# EAGLE library part TPS56320X (library bt_regulator)
TPS56320x 3-A Synchronous Step-Down Voltage Regulator The TPS563201 and TPS563208 are simple, easy-to-use, 3A synchronous step-down converters in SOT-23 package. The devices are optimized to operate with minimum external component counts and also optimized to achieve low standby current These switch mode power supply (SMPS) devices employ D-CAP2 mode control providing a fast transient response and supporting both low-equivalent series resistance (ESR) output capacitors such as specialty polymer and ultra-low ESR ceramic capacitors with no external compensation components. TPS563201 operates in pulse skip mode, which maintains high efficiency during light load operation. The TPS563201 and TPS563208 are available in a 6-pin 1.6mm x 2.9mm DDC package and specified from a 40°C to 125°C junction temperature. Datasheet.pdf <http://www.ti.com/lit/ds/symlink/tps563201.pdf> Features Integrated 95-mΩ and 57-mΩ FETs D-CAP2™ Mode Control with fast transient response Input Voltage Range: 4.5 V to 17 V Output Voltage Range: 0.76 V to 7 V Pulse-skip mode (TPS563201) or Continuous Current Mode (TPS563208) 580-kHz Switching Frequency Low Shutdown Current Less than 10 µA 2% Feedback Voltage Accuracy (25 ºC) Startup from Pre-Biased Output Voltage Cycle-by-Cycle Overcurrent Limit Hiccup-mode Overcurrent Protection Non-Latch UVP and TSD Protections Fixed Soft Start: 1.0 ms
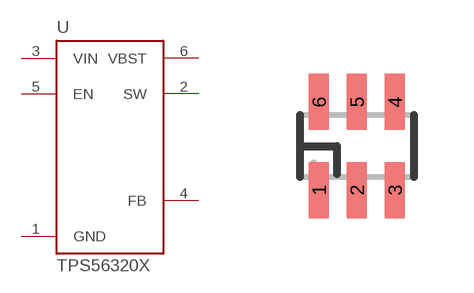
[diagram p5: symbol with the pads of SOT23-6; footprint SOT23-6]

Designator prefix U

## TPS56320X  [SOT23-6]
1  GND
2  SW
3  VIN
4  FB
5  EN
6  VBST

## Footprint SOT23-6 (pad centres in mm)
SOT23-6 package This is the DBV6 package from Texas Instruments. It differs from the one in the Eagle libraries (there are two versions in ref-packages.lbr) in that the pad dimensions are 0.5mm x 1.4mm, as in the TI recommendation. The pin spacing is 0.95mm, and the package body has nominal dimensions 2.9mm long by 1.6mm wide.
smd 0.5 x 1.4: 1 -0.95,-1.1; 2 0,-1.1; 3 0.95,-1.1; 4 0.95,1.1; 5 0,1.1; 6 -0.95,1.1